# Altium footprint library Motor_Driver.PcbLib: 16 footprints
Each footprint in its own frame and in the unit in brackets; x right, y up, seen from the top. Pads: shape width x height; smd on the part's side, far side on the other; paste and mask are expansions set on the pad; w line width, h text height; cw(c..) or ccw(c..) is an arc to the next point about the centre after c.
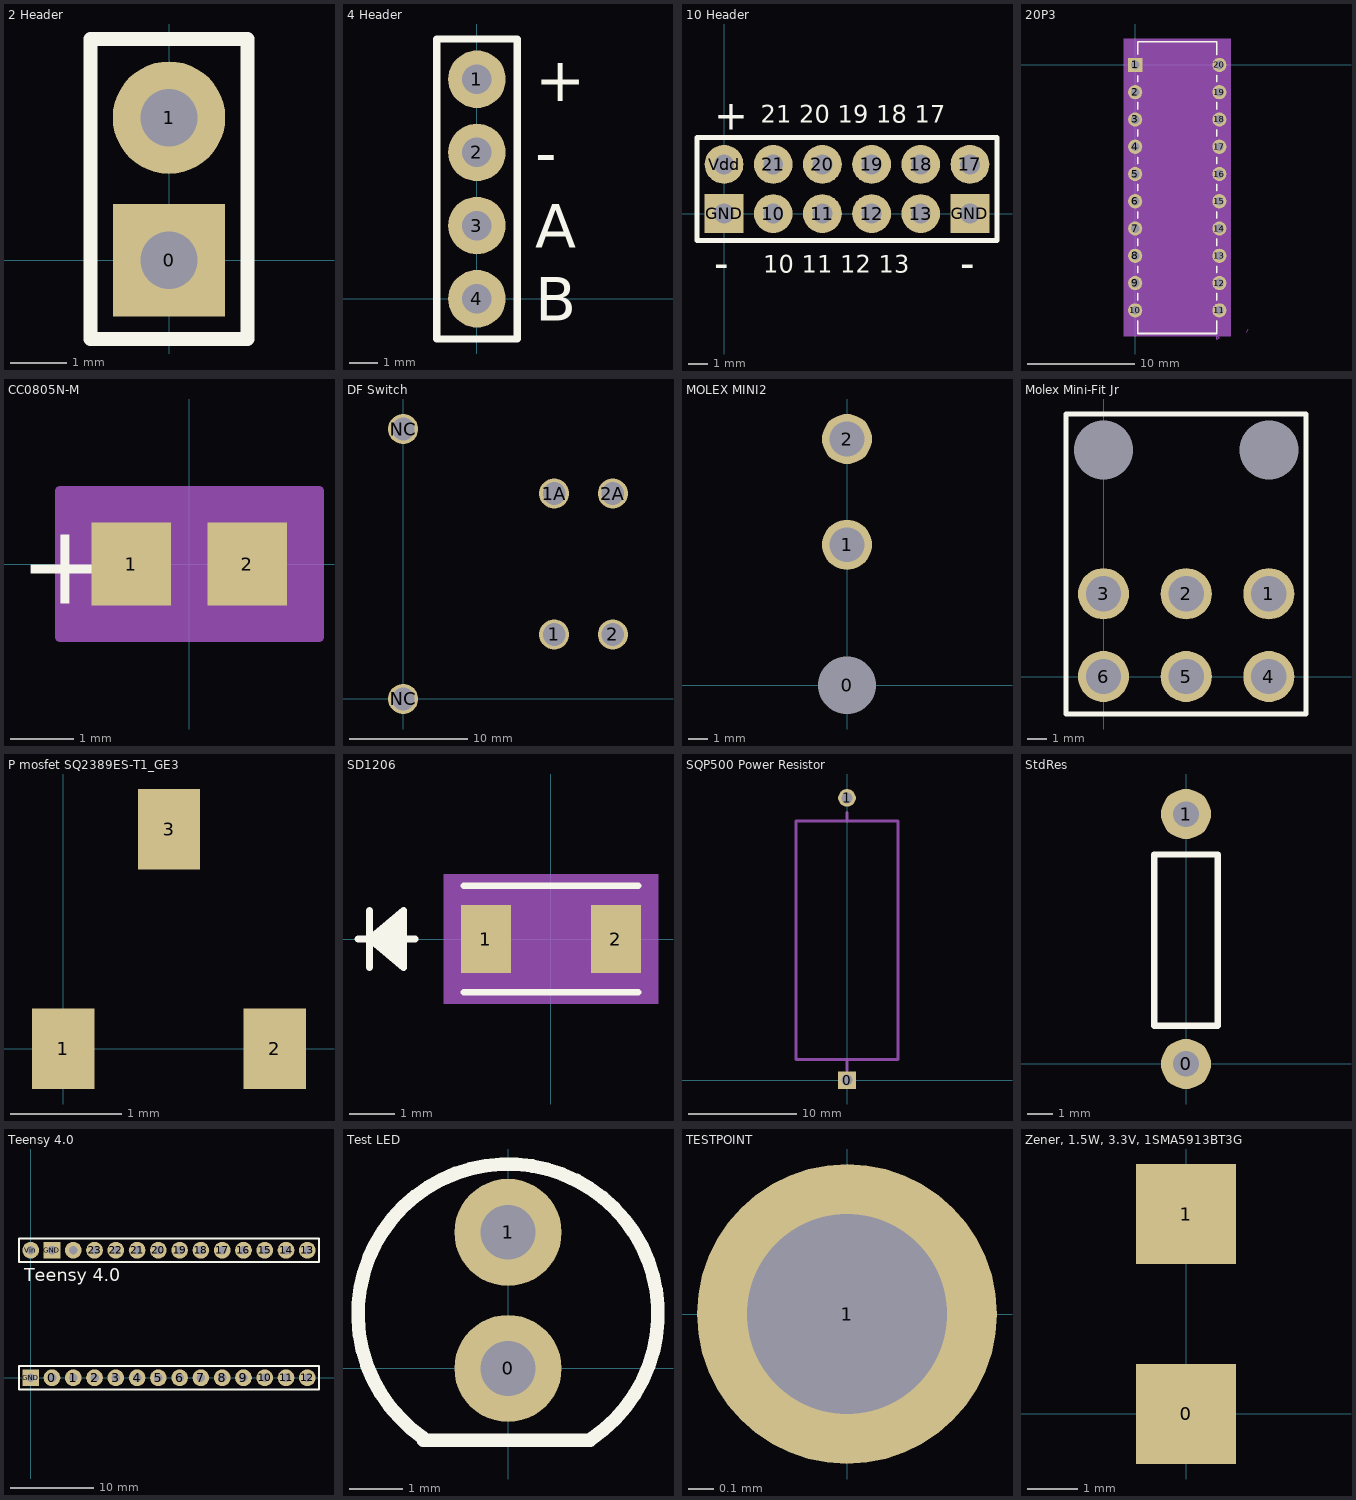
[diagram p0: the footprints below, top view; thin cyan lines are the x and y axes]

## 2 Header [mm]
pads (2):
  rect 2x2 hole 1.02: 0(0,0)
  round 2 hole 1.02: 1(0,2.54)
Top Overlay:
  lines w0.254: -1.397,-1.397 -1.397,3.937 1.397,3.937 1.397,-1.397 -1.397,-1.397

## 4 Header [mm]
pads (4):
  round 2 hole 1.02: 1(0,7.62) 2(0,5.08) 3(0,2.54) 4(0,0)
Top Overlay:
  lines w0.254: -1.397,-1.397 1.397,-1.397 1.397,9.017 -1.397,9.017 -1.397,-1.397
  text "+" at 2.032,6.858 h1.52
  text "-" at 2.032,4.318 h1.52
  text "A" at 2.032,1.778 h1.52
  text "B" at 2.032,-0.762 h1.52

## 10 Header [mm]
pads (12):
  round 2 hole 1.02: 10(2.54,0) 11(5.08,0) 12(7.62,0) 13(10.16,0) 17(12.7,2.54) 18(10.16,2.54) 19(7.62,2.54) 20(5.08,2.54) 21(2.54,2.54) Vdd(0,2.54)
  rect 2x2 hole 1.02: GND(0,0) GND(12.7,0)
Top Overlay:
  lines w0.254: -1.397,-1.397 14.097,-1.397 14.097,3.937 -1.397,3.937 -1.397,-1.397
  text "+" at -0.508,4.318 h1.52
  text "-" at -0.508,-3.302 h1.52
  text "-" at 12.192,-3.302 h1.52
  text "10 11 12 13" at 2.032,-3.048 h0.9
  text "21 20 19 18 17" at 1.905,4.699 h0.9

## 20P3 [mil]
pads (20):
  rect 52x52 hole 32 mask+0: 1(0,0)
  round 52 hole 32 mask+0: 2(0,-100) 3(0,-200) 4(0,-300) 5(0,-400) 6(0,-500) 7(0,-600) 8(0,-700) 9(0,-800) 10(0,-900) 11(308.74,-900) 12(308.74,-800) 13(308.74,-700) 14(308.74,-600) 15(308.74,-500) 16(308.74,-400) 17(308.74,-300) 18(308.74,-200) 19(308.74,-100) 20(308.74,0)
Top Overlay:
  lines w6: 9.37,-937.96 9.37,-985 299.37,-985 299.37,-937.96 ; 9.37,-862.04 9.37,-837.96 ; 9.37,-762.04 9.37,-737.96 ; 9.37,-662.04 9.37,-637.96 ; 9.37,-562.04 9.37,-537.96 ; 9.37,-462.04 9.37,-437.96 ; 9.37,-362.04 9.37,-337.96 ; 9.37,-262.04 9.37,-237.96 ; 9.37,-162.04 9.37,-137.96 ; 9.37,-62.04 9.37,-39.1 ; 9.37,39.1 9.37,85 299.37,85 299.37,37.96 ; 299.37,-862.04 299.37,-837.96 ; 299.37,-762.04 299.37,-737.96 ; 299.37,-662.04 299.37,-637.96 ; 299.37,-562.04 299.37,-537.96 ; 299.37,-462.04 299.37,-437.96 ; 299.37,-362.04 299.37,-337.96 ; 299.37,-262.04 299.37,-237.96 ; 299.37,-162.04 299.37,-137.96 ; 299.37,-62.04 299.37,-37.96
Mechanical 5:
  region: 349.74,-995 -41,-995 -41,95 349.74,95
Mechanical 7:
  lines w1: 408.74,-980 413.74,-970 ; 298.74,-1005 308.74,-1000 298.74,-995 298.74,-1005
Mechanical 13:
  lines w0: 142.37,80 ccw(c154.37,80) 166.37,80
  lines w1: -16,-916 -16,-884 14.37,-884 14.37,-916 -16,-916 ; -16,-816 -16,-784 14.37,-784 14.37,-816 -16,-816 ; -16,-716 -16,-684 14.37,-684 14.37,-716 -16,-716 ; -16,-616 -16,-584 14.37,-584 14.37,-616 -16,-616 ; -16,-516 -16,-484 14.37,-484 14.37,-516 -16,-516 ; -16,-416 -16,-384 14.37,-384 14.37,-416 -16,-416 ; -16,-316 -16,-284 14.37,-284 14.37,-316 -16,-316 ; -16,-216 -16,-184 14.37,-184 14.37,-216 -16,-216 ; -16,-116 -16,-84 14.37,-84 14.37,-116 -16,-116 ; -16,-16 -16,16 14.37,16 14.37,-16 -16,-16 ; 14.37,-980 294.37,-980 294.37,80 14.37,80 14.37,-980 ; 294.37,-916 294.37,-884 324.74,-884 324.74,-916 294.37,-916 ; 294.37,-816 294.37,-784 324.74,-784 324.74,-816 294.37,-816 ; 294.37,-716 294.37,-684 324.74,-684 324.74,-716 294.37,-716 ; 294.37,-616 294.37,-584 324.74,-584 324.74,-616 294.37,-616 ; 294.37,-516 294.37,-484 324.74,-484 324.74,-516 294.37,-516 ; 294.37,-416 294.37,-384 324.74,-384 324.74,-416 294.37,-416 ; 294.37,-316 294.37,-284 324.74,-284 324.74,-316 294.37,-316 ; 294.37,-216 294.37,-184 324.74,-184 324.74,-216 294.37,-216 ; 294.37,-116 294.37,-84 324.74,-84 324.74,-116 294.37,-116 ; 294.37,-16 294.37,16 324.74,16 324.74,-16 294.37,-16
  text "*" at 11.87,-25 h50
Mechanical 15:
  region: 304.37,-936 344.74,-936 344.74,36 304.37,36 304.37,90 4.37,90 4.37,36 -36,36 -36,-936 4.37,-936 4.37,-990 304.37,-990
  lines w6: -36,-936 -36,36 4.37,36 4.37,90 304.37,90 304.37,36 344.74,36 344.74,-936 304.37,-936 304.37,-990 4.37,-990 4.37,-936 -36,-936
3D body: height 10, standoff 0, extent 0,0 10,10

## CC0805N-M [mm]
pads (2):
  rect 1.261x1.319 smd paste+0 mask+0: 1(-0.923,0) 2(0.923,0)
Top Overlay:
  text "+" at -2.709,-0.635 h1.27
Mechanical 5:
  region: 1.934,-1.041 -1.934,-1.041 -1.934,1.041 1.934,1.041
Mechanical 13:
  lines w0.025: -1.003,-0.61 -1.003,0.61 ; -1.003,-0.61 -0.292,-0.61 -0.292,0.61 -1.003,0.61 ; -1.003,-0.61 1.003,-0.61 ; -1.003,-0.61 -1.003,0.61 ; -1.003,0.61 1.003,0.61 ; 1.003,-0.61 0.292,-0.61 0.292,0.61 1.003,0.61 ; 1.003,-0.61 1.003,0.61 ; 1.003,-0.61 1.003,0.61
  text "+" at -2.709,-0.635 h1.27
Mechanical 15:
  region: 2.061,-1.168 -2.061,-1.168 -2.061,1.168 2.061,1.168
  lines w0.152: -2.061,-1.168 -2.061,1.168 2.061,1.168 2.061,-1.168 -2.061,-1.168
3D body: height 0.25, standoff 0, extent 0,0 0.254,0.254
3D body "C0805C104M5RACTU.step": height 0.88, standoff 0, extent -1.1,-0.635 1.1,0.815

## DF Switch [mm]
pads (6):
  round 2.54 hole 1.91: 1(12.73,5.435) 1A(12.73,17.325) 2(17.68,5.435) 2A(17.68,17.325) NC(0,0) NC(0,22.76)
3D body: height 13.08, standoff 0, extent -4.11,0 12.73,22.76
3D body: height 0.25, standoff -22, extent 14.605,24.892 14.605,24.892

## MOLEX MINI2 [mm]
pads (3):
  round 1.524 hole 3: 0(0,0)
  round 2.6 hole 1.8: 1(0,7.3) 2(0,12.8)
3D body "minifit2.stp": height 11.4, standoff -3.6, extent -2.625,-6.538 3.175,13.396

## Molex Mini-Fit Jr [mm] "Molex 0457320001"
pads (8):
  round 2.6 hole 1.8: 1(8.4,4.2) 2(4.2,4.2) 3(0,4.2) 4(8.4,0) 5(4.2,0) 6(0,0)
  round 0 hole 3: ""(0,11.5) ""(8.4,11.5)
Top Overlay:
  lines w0.254: -1.905,-1.905 -1.905,13.335 10.287,13.335 10.287,-1.905 -1.905,-1.905
3D body "457320001.stp": height 11.4, standoff -3.61, extent -3.048,-0.554 11.152,18.08

## P mosfet SQ2389ES-T1_GE3 [mm]
pads (3):
  rect 0.559x0.724 all layers, no hole: 1(0,0) 2(1.9,0) 3(0.95,1.969)

## SD1206 [mil]
pads (2):
  rect 43.5x59 smd paste+0 mask+0: 1(-56.75,0) 2(56.75,0)
Top Overlay:
  lines w6: -168.5,0 -118.5,0 ; -158.5,-25 -158.5,25 ; -128.5,-20 -158.5,0 ; -128.5,-15 -158.5,0 ; -128.5,-10 -158.5,0 ; -128.5,-5 -158.5,0 ; -128.5,5 -158.5,0 ; -128.5,10 -158.5,0 ; -128.5,15 -158.5,0 ; -128.5,20 -158.5,0 ; -76,-46.5 76,-46.5 ; -76,46.5 76,46.5 ; -158.5,0 -128.5,25 -128.5,-25 -158.5,0
Mechanical 5:
  region: 93.5,-56.5 -93.5,-56.5 -93.5,56.5 93.5,56.5
Mechanical 13:
  lines w1: -168.5,0 -118.5,0 ; -158.5,-25 -158.5,25 ; -128.5,-20 -158.5,0 ; -128.5,-15 -158.5,0 ; -128.5,-10 -158.5,0 ; -128.5,-5 -158.5,0 ; -128.5,5 -158.5,0 ; -128.5,10 -158.5,0 ; -128.5,15 -158.5,0 ; -128.5,20 -158.5,0 ; -158.5,0 -128.5,25 -128.5,-25 -158.5,0 ; -71,-41.5 71,-41.5 71,41.5 -71,41.5 -71,-41.5
Mechanical 15:
  region: -81,-39.5 -88.5,-39.5 -88.5,39.5 -81,39.5 -81,51.5 81,51.5 81,39.5 88.5,39.5 88.5,-39.5 81,-39.5 81,-51.5 -81,-51.5
  lines w6: -88.5,-39.5 -88.5,39.5 -81,39.5 -81,51.5 81,51.5 81,39.5 88.5,39.5 88.5,-39.5 81,-39.5 81,-51.5 -81,-51.5 -81,-39.5 -88.5,-39.5
3D body: height 10, standoff 0, extent 0,0 10,10

## SQP500 Power Resistor [mm]
pads (2):
  rect 1.63x1.63 hole 1.02: 0(0,0)
  round 1.63 hole 1.02: 1(0,26)
Mechanical 1:
  lines w0.254: 0,0.889 0,1.905 ; 0,23.876 0,24.638 ; 0,1.905 -4.699,1.905 -4.699,23.876 4.699,23.876 4.699,1.905 0,1.905
3D body: height 0.25, standoff 0, extent -4.75,2 4.75,24

## StdRes [mm]
pads (2):
  round 2 hole 1.02: 0(0,0) 1(0,10)
Top Overlay:
  lines w0.254: -1.27,1.524 -1.27,8.382 1.27,8.382 1.27,1.524 -1.27,1.524

## Teensy 4.0 [mm]
pads (28):
  round 2 hole 1.02: 0(2.54,0) 1(5.08,0) 2(7.62,0) 3(10.16,0) 3.3V(5.08,15.24) 4(12.7,0) 5(15.24,0) 6(17.78,0) 7(20.32,0) 8(22.86,0) 9(25.4,0) 10(27.94,0) 11(30.48,0) 12(33.02,0) 13(33.02,15.24) 14(30.48,15.24) 15(27.94,15.24) 16(25.4,15.24) 17(22.86,15.24) 18(20.32,15.24) 19(17.78,15.24) 20(15.24,15.24) 21(12.7,15.24) 22(10.16,15.24) 23(7.62,15.24) Vin(0,15.24)
  rect 2x2 hole 1.02: GND(0,0) GND(2.54,15.24)
Top Overlay:
  lines w0.254: -1.397,-1.397 34.417,-1.397 34.417,1.397 -1.397,1.397 -1.397,-1.397 ; -1.397,13.843 -1.397,16.637 34.417,16.637 34.417,13.843 -1.397,13.843
  text "Teensy 4.0" at -0.762,11.557 h1.52

## Test LED [mm]
pads (2):
  round 2 hole 1.02: 0(0,0) 1(0,2.54)
Top Overlay:
  lines w0.254: -1.581,-1.339 1.534,-1.339 ; -1.581,-1.295 cw(c0,1.016) 1.553,-1.314

## TESTPOINT [mm] "Testpoint"
pads (1):
  round 1.2 hole 0.8 paste-1: 1(0,0)

## Zener, 1.5W, 3.3V, 1SMA5913BT3G [mm]
pads (2):
  rect 2x2 all layers, no hole mask+0: 0(0,0)
  rect 2x2 / inner rect 1.321x1.321 / far side rect 1.321x1.321 all layers, no hole mask+0: 1(0,4)